# EAGLE library part HEADER-3X04 (library Header and Connector)
HEADER - 3x04
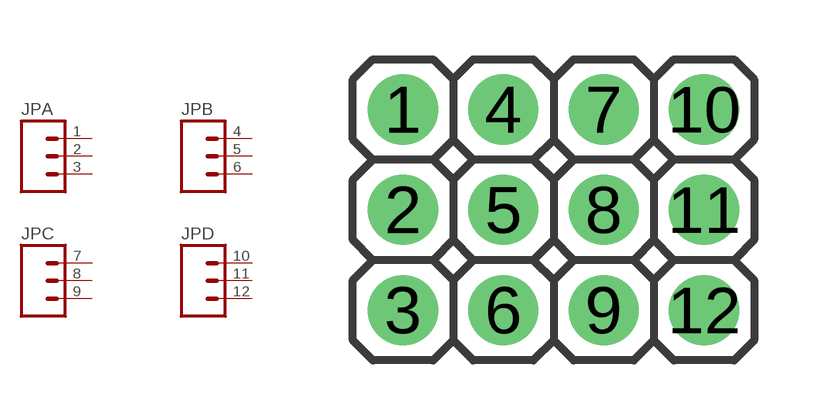
[diagram p26: symbol with the pads of HDR-M3X04; footprint HDR-M3X04]

Designator prefix JP; gates A=1X03 B=1X03 C=1X03 D=1X03

## HEADER-3X04 (DESC: MALE HEADER - 3x40 WAYS; VALUE: 4/40 WAYS)  [HDR-M3X04]
1  A:1  pas
2  A:2  pas
3  A:3  pas
4  B:1  pas
5  B:2  pas
6  B:3  pas
7  C:1  pas
8  C:2  pas
9  C:3  pas
10  D:1  pas
11  D:2  pas
12  D:3  pas

## Footprint HDR-M3X04 (pad centres in mm)
drill 1.016 pad 1.778: 1 -3.81,2.54; 2 -3.81,0; 3 -3.81,-2.54; 4 -1.27,2.54; 5 -1.27,0; 6 -1.27,-2.54; 7 1.27,2.54; 8 1.27,0; 9 1.27,-2.54; 10 3.81,2.54; 11 3.81,0; 12 3.81,-2.54